# Altium schematic symbol library Schlib1.SchLib: 10 symbols
Pins are listed as number, name and electrical type; pins without a type are passive.

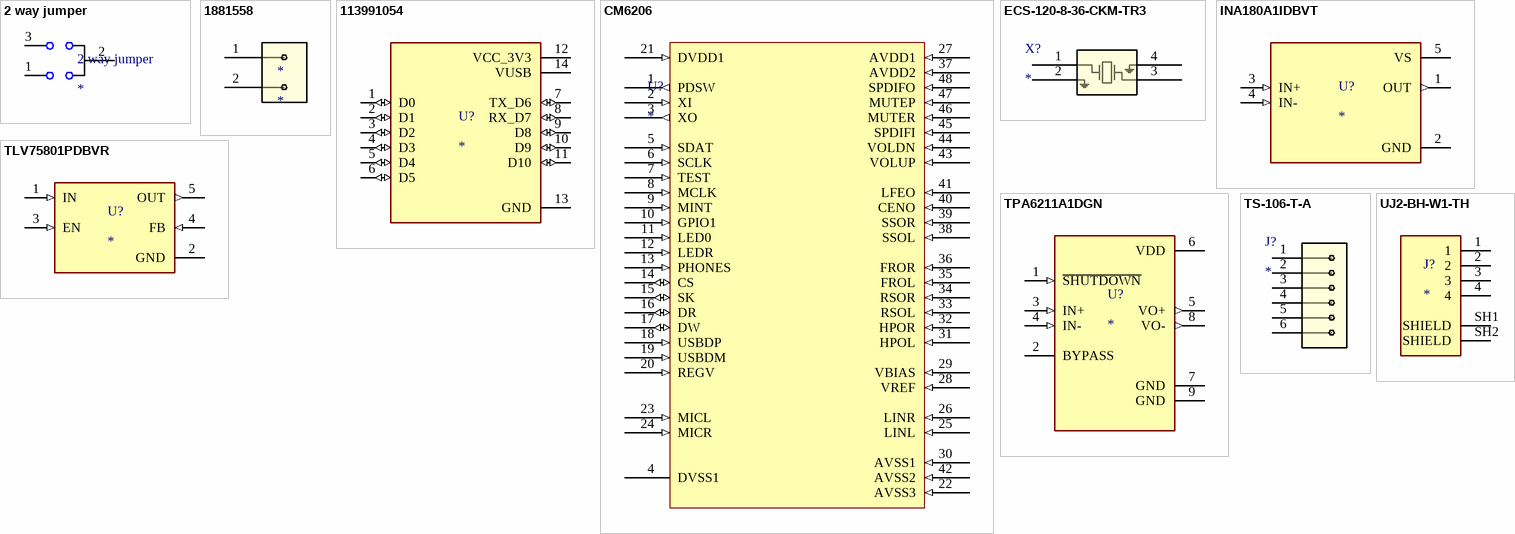
[diagram p0: symbols 2 way jumper to UJ2-BH-W1-TH]

## 2 way jumper
designator 2 way jumper
footprint 0603 2 way jumper (resistor 2 way jumper)
pins: 1, 2, 3

## 1881558
designator *
footprint 1881558
pins: 1, 2

## 113991054
designator U?
- ESP32-C3 Transceiver; 802.11 a/b/g/n (Wi-Fi, WiFi, WLAN), BluetoothÂ® Smart 4.x Low Energy (BLE) 2.4GHz Evaluation Board; MP: 113991054; MF: Seeed Technology Co., Ltd; Price: None; Availability: In Stock; Package: None; Check_prices: https://www.snapeda.com/parts/113991054/Seeed+Technology+Co.%252C+Ltd/view-part/?ref=eda; Value: *; SnapEDA_Link: https://www.snapeda.com/parts/113991054/Seeed+Technology+Co.%252C+Ltd/view-part/?ref=snap; Purchase-URL: https://pricing.snapeda.com/search/part/113991054/?ref=eda
footprint 113991054
pins: 1 D0 (io), 2 D1 (io), 3 D2 (io), 4 D3 (io), 5 D4 (io), 6 D5 (io), 7 TX_D6 (io), 8 RX_D7 (io), 9 D8 (io), 10 D9 (io), 11 D10 (io), 12 VCC_3V3 (power), 13 GND (power), 14 VUSB (power)

## CM6206
designator U?
footprint CM6206 LQFP48
pins: 1 PDSW (out), 2 XI (in), 3 XO (out), 4 DVSS1 (power), 5 SDAT (in), 6 SCLK (in), 7 TEST (in), 8 MCLK (in), 9 MINT (in), 10 GPIO1 (in), 11 LED0 (in), 12 LEDR (in), 13 PHONES (in), 14 CS (io), 15 SK (io), 16 DR (io), 17 DW (io), 18 USBDP (in), 19 USBDM (in), 20 REGV (in), 21 DVDD1 (in), 22 AVSS3 (in), 23 MICL (in), 24 MICR (in), 25 LINL (in), 26 LINR (in), 27 AVDD1 (in), 28 VREF (in), 29 VBIAS (in), 30 AVSS1 (in), 31 HPOL (in), 32 HPOR (in), 33 RSOL (in), 34 RSOR (in), 35 FROL (in), 36 FROR (in), 37 AVDD2 (in), 38 SSOL (in), 39 SSOR (in), 40 CENO (in), 41 LFEO (in), 42 AVSS2 (in), 43 VOLUP (in), 44 VOLDN (in), 45 SPDIFI (in), 46 MUTER (in), 47 MUTEP (in), 48 SPDIFO (in)

## ECS-120-8-36-CKM-TR3
designator X?
No Description Available; Mfr_Name: ECS International; Type: Crystals; RefDes: RefDes
footprint ECS-120-8_ECS
pins: 1, 2, 3, 4

## INA180A1IDBVT
designator U?
26V, 350kHz current sense amplifier; MP: INA180A1IDBVT; MF: Texas Instruments; Package: SOT-23-5 Texas Instruments; Purchase-URL: https://pricing.snapeda.com/search/part/INA180A1IDBVT/?ref=eda; Check_prices: https://www.snapeda.com/parts/INA180A1IDBVT/Texas+Instruments/view-part/?ref=eda; SnapEDA_Link: https://www.snapeda.com/parts/INA180A1IDBVT/Texas+Instruments/view-part/?ref=snap; Price: None; Availability: In Stock; Value: *
footprint SOT95P280X145-5N
pins: 1 OUT (out), 2 GND (power), 3 IN+ (in), 4 IN- (in), 5 VS (power)

## TLV75801PDBVR
designator U?
500-mA, low-IQ, high-accuracy, adjustable ultra-low-dropout voltage regulator with enable; MF: Texas Instruments; MP: TLV75801PDBVR; SnapEDA_Link: https://www.snapeda.com/parts/TLV75801PDBVR/Texas+Instruments/view-part/?ref=snap; Package: SOT-23-5 Texas Instruments; Value: *; Check_prices: https://www.snapeda.com/parts/TLV75801PDBVR/Texas+Instruments/view-part/?ref=eda
footprint SOT95P280X145-5N
pins: 1 IN (in), 2 GND (power), 3 EN (in), 4 FB (in), 5 OUT (out)

## TPA6211A1DGN
designator U?
3.1-W, mono, analog input Class-AB audio amplifier; MF: Texas Instruments; MP: TPA6211A1DGN; SnapEDA_Link: https://www.snapeda.com/parts/TPA6211A1DGN/Texas+Instruments/view-part/?ref=snap; Package: HVSSOP-8 Texas Instruments; Value: *; Check_prices: https://www.snapeda.com/parts/TPA6211A1DGN/Texas+Instruments/view-part/?ref=eda
footprint SOP65P490X110-9N
pins: 1 ~{SHUTDOWN} (in), 2 BYPASS, 3 IN+ (in), 4 IN- (in), 5 VO+ (out), 6 VDD (power), 7 GND (power), 8 VO- (out), 9 GND (power)

## TS-106-T-A
designator J?
No Description Available; Mfr_Name: Samtec Inc; RefDes: RefDes; Type: Type
footprint CON6_1X6_TU_HTS_SAI
pins: 1, 2, 3, 4, 5, 6

## UJ2-BH-W1-TH
designator J?
3 µin Plating Thickness, White Insulator, USB Receptacle; MF: {'manufacturer': u'CUI'}; MP: UJ2-BH-W1-TH; Price: None; Value: *; Package: None; Availability: Unavailable
footprint CUI_UJ2-BH-W1-TH
pins: 1, 2, 3, 4, SH1 SHIELD, SH2 SHIELD